# Altium footprint library PCB - CONNECTORS - MOLEX 22-23-2031.PCBLIB: 1 footprints
Each footprint in its own frame and in the unit in brackets; x right, y up, seen from the top. Pads: shape width x height; smd on the part's side, far side on the other; paste and mask are expansions set on the pad; w line width, h text height; cw(c..) or ccw(c..) is an arc to the next point about the centre after c.
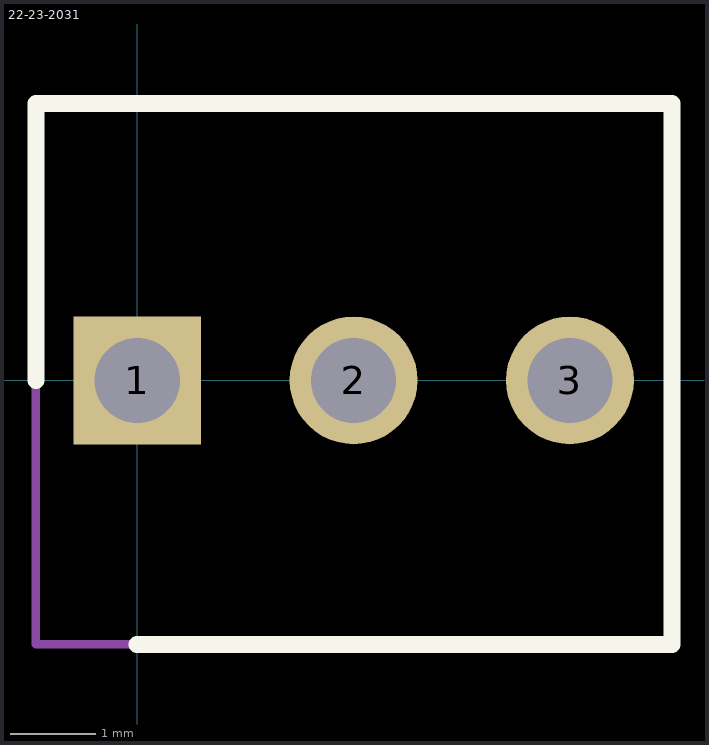
[diagram p0: the footprint, top view; thin cyan lines are the x and y axes]

## 22-23-2031 [mm]
pads (3):
  rect 1.5x1.5 hole 1: 1(0,0)
  round 1.5 hole 1: 2(2.54,0) 3(5.08,0)
Top Overlay:
  lines w0.2: -1.19,0 -1.19,3.25 6.28,3.25 6.28,-3.1 0,-3.1
Top Value (Mech13):
  lines w0.1: -1.19,-3.1 6.28,-3.1 6.28,3.25 -1.19,3.25 -1.19,-3.1
3D body "22-23-2031.stp": height 10.66, standoff -3.56, extent -1.184,-3.101 6.284,3.249